# Altium footprint library general__electr.PcbLib: 12 footprints
Each footprint in its own frame and in the unit in brackets; x right, y up, seen from the top. Pads: shape width x height; smd on the part's side, far side on the other; paste and mask are expansions set on the pad; w line width, h text height; cw(c..) or ccw(c..) is an arc to the next point about the centre after c.
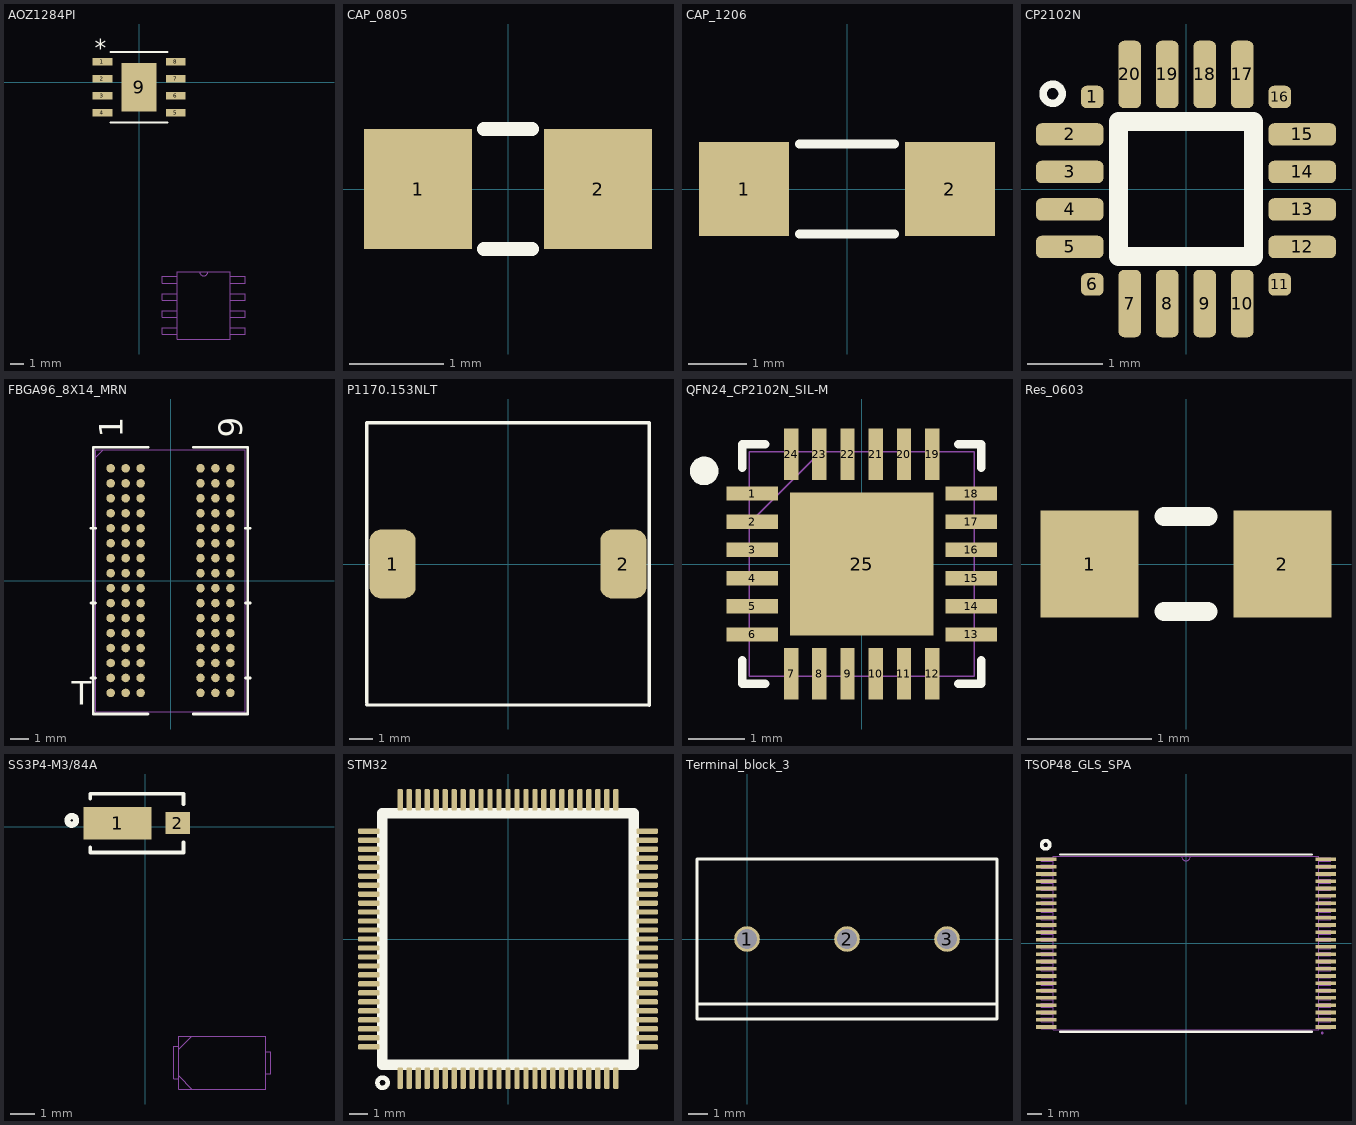
[diagram p0: the footprints below, top view; thin cyan lines are the x and y axes]

## AOZ1284PI [mil] "IC REG BUCK ADJ 4A 8SO"
pads (9):
  rect 57.5x22 smd: 1(-107.25,60) 2(-107.25,10) 3(-107.25,-40) 4(-107.25,-90) 5(107.25,-90) 6(107.25,-40) 7(107.25,10) 8(107.25,60)
  rect 102x142 smd: 9(0,-15)
Top Overlay:
  lines w6: -83.5,-118.5 83.5,-118.5 ; -83.5,88.5 83.5,88.5
  text "*" at -129.75,77 h50
Top Paste:
  region: 47.06,-18.94 3.94,-18.94 3.94,-82.06 47.06,-82.06
  region: 47.06,52.06 3.94,52.06 3.94,-11.06 47.06,-11.06
  region: -3.94,-18.94 -47.06,-18.94 -47.06,-82.06 -3.94,-82.06
  region: -3.94,52.06 -47.06,52.06 -47.06,-11.06 -3.94,-11.06
Mechanical 13:
  lines w0: 178,-556.5 ccw(c190,-556.5) 202,-556.5
  lines w1: 68,-740 111.5,-740 111.5,-720 68,-720 68,-740 ; 68,-690 111.5,-690 111.5,-670 68,-670 68,-690 ; 68,-640 111.5,-640 111.5,-620 68,-620 68,-640 ; 68,-590 111.5,-590 111.5,-570 68,-570 68,-590 ; 111.5,-753.5 111.5,-556.5 268.5,-556.5 268.5,-753.5 111.5,-753.5 ; 268.5,-740 312,-740 312,-720 268.5,-720 268.5,-740 ; 268.5,-690 312,-690 312,-670 268.5,-670 268.5,-690 ; 268.5,-640 312,-640 312,-620 268.5,-620 268.5,-640 ; 268.5,-590 312,-590 312,-570 268.5,-570 268.5,-590

## CAP_0805 [mil]
pads (2):
  rect 45x50 smd: 1(-37.5,0) 2(37.5,0)
Top Overlay:
  lines w6: -10,-25 10,-25 ; -10,25 10,25
3D body "User Library-SMD Ceramic Capacitors_0805 (2012)_DP.STEP": height 35.43, standoff 0, extent -39.37,-24.61 39.37,24.61

## CAP_1206 [mil]
pads (2):
  rect 60x63 smd: 1(-69,0) 2(69,0)
Top Overlay:
  lines w6: -32,-30 32,-30 ; -32,30 32,30
3D body "1206.STEP": height 62.99, standoff 0, extent -64.57,-31.5 64.57,31.5

## CP2102N [mm] "CP2102N-A02-GQFN20R"
pads (20):
  rrect50% 0.3x0.3 smd: 1(-1.25,1.227) 6(-1.25,-1.273) 11(1.25,-1.273) 16(1.25,1.227)
  rrect50% 0.9x0.3 smd: 2(-1.55,0.727) 3(-1.55,0.227) 4(-1.55,-0.273) 5(-1.55,-0.773) 12(1.55,-0.773) 13(1.55,-0.273) 14(1.55,0.227) 15(1.55,0.727)
  rrect50% 0.3x0.9 smd: 7(-0.75,-1.527) 8(-0.25,-1.527) 9(0.25,-1.527) 10(0.75,-1.527) 17(0.75,1.527) 18(0.25,1.527) 19(-0.25,1.527) 20(-0.75,1.527)
Top Overlay:
  circle w0.1: c-1.778,1.27 r0.127
  lines w0.254: -0.9,-0.9 0.9,-0.9 0.9,0.9 -0.9,0.9 -0.9,-0.9
3D body "User Library-QFN20(3x3).STEP": height 0.8, standoff 0, extent -1.5,-1.5 1.5,1.5

## FBGA96_8X14_MRN [mm]
pads (96):
  round 0.457 smd: A1(-3.2,6) A2(-2.4,6) A3(-1.6,6) A7(1.6,6) A8(2.4,6) A9(3.2,6) B1(-3.2,5.2) B2(-2.4,5.2) B3(-1.6,5.2) B7(1.6,5.2) B8(2.4,5.2) B9(3.2,5.2) C1(-3.2,4.4) C2(-2.4,4.4) C3(-1.6,4.4) C7(1.6,4.4) C8(2.4,4.4) C9(3.2,4.4) D1(-3.2,3.6) D2(-2.4,3.6) D3(-1.6,3.6) D7(1.6,3.6) D8(2.4,3.6) D9(3.2,3.6) E1(-3.2,2.8) E2(-2.4,2.8) E3(-1.6,2.8) E7(1.6,2.8) E8(2.4,2.8) E9(3.2,2.8) F1(-3.2,2) F2(-2.4,2) F3(-1.6,2) F7(1.6,2) F8(2.4,2) F9(3.2,2) G1(-3.2,1.2) G2(-2.4,1.2) G3(-1.6,1.2) G7(1.6,1.2) G8(2.4,1.2) G9(3.2,1.2) H1(-3.2,0.4) H2(-2.4,0.4) H3(-1.6,0.4) H7(1.6,0.4) H8(2.4,0.4) H9(3.2,0.4) J1(-3.2,-0.4) J2(-2.4,-0.4) J3(-1.6,-0.4) J7(1.6,-0.4) J8(2.4,-0.4) J9(3.2,-0.4) K1(-3.2,-1.2) K2(-2.4,-1.2) K3(-1.6,-1.2) K7(1.6,-1.2) K8(2.4,-1.2) K9(3.2,-1.2) L1(-3.2,-2) L2(-2.4,-2) L3(-1.6,-2) L7(1.6,-2) L8(2.4,-2) L9(3.2,-2) M1(-3.2,-2.8) M2(-2.4,-2.8) M3(-1.6,-2.8) M7(1.6,-2.8) M8(2.4,-2.8) M9(3.2,-2.8) N1(-3.2,-3.6) N2(-2.4,-3.6) N3(-1.6,-3.6) N7(1.6,-3.6) N8(2.4,-3.6) N9(3.2,-3.6) P1(-3.2,-4.4) P2(-2.4,-4.4) P3(-1.6,-4.4) P7(1.6,-4.4) P8(2.4,-4.4) P9(3.2,-4.4) R1(-3.2,-5.2) R2(-2.4,-5.2) R3(-1.6,-5.2) R7(1.6,-5.2) R8(2.4,-5.2) R9(3.2,-5.2) T1(-3.2,-6) T2(-2.4,-6) T3(-1.6,-6) T7(1.6,-6) T8(2.4,-6) T9(3.2,-6)
Top Overlay:
  lines w0.152: -4.255,-5.2 -4,-5.2 ; -4.255,-1.2 -4,-1.2 ; -4.255,2.8 -4,2.8 ; -1.209,-7.125 -4.127,-7.125 -4.127,7.125 -1.209,7.125 ; 1.209,-7.125 4.127,-7.125 4.127,7.125 1.209,7.125 ; 4,-5.2 4.255,-5.2 ; 4,-1.2 4.255,-1.2 ; 4,2.8 4.255,2.8
  text "1" at -2.565,7.633 h1.27
  text "9" at 3.835,7.633 h1.27
  text "T" at -5.271,-6.635 h1.27
Bottom Overlay:
  text "1" at -3.835,7.633 h1.27
  text "9" at 2.565,7.633 h1.27
Top Paste:
  region: 0.802,6.898 -0.802,6.898 -0.802,5.825 0.802,5.825
  region: 0.802,5.625 -0.802,5.625 -0.802,4.553 0.802,4.553
  region: 0.802,4.353 -0.802,4.353 -0.802,3.281 0.802,3.281
  region: 0.802,3.081 -0.802,3.081 -0.802,2.008 0.802,2.008
  region: 0.802,1.808 -0.802,1.808 -0.802,0.736 0.802,0.736
  region: 0.802,0.536 -0.802,0.536 -0.802,-0.536 0.802,-0.536
  region: 0.802,-0.736 -0.802,-0.736 -0.802,-1.808 0.802,-1.808
  region: 0.802,-2.008 -0.802,-2.008 -0.802,-3.081 0.802,-3.081
  region: 0.802,-3.281 -0.802,-3.281 -0.802,-4.353 0.802,-4.353
  region: 0.802,-4.553 -0.802,-4.553 -0.802,-5.625 0.802,-5.625
  region: 0.802,-5.825 -0.802,-5.825 -0.802,-6.898 0.802,-6.898
Mechanical 13:
  lines w0.025: -4,6.598 -3.601,6.998 ; -4,-6.998 4,-6.998 4,6.998 -4,6.998 -4,-6.998
  text "1" at -2.565,7.633 h1.27
  text "9" at 3.835,7.633 h1.27
3D body "FBGA96_8X14_MRN.step": height 1.2, standoff 0, extent -4,-6.998 4,6.998

## P1170.153NLT [mil] "FIXED IND 15UH 4A 30 MOHM SMD"
pads (2):
  rrect50% 79x118 smd: 1(-197,0) 2(197,0)
Top Overlay:
  lines w6: -241,-240 241,-241 241,241 -241,241 ; -241,-237 -241,240
3D body "IND_70153NLT_PUL.step": height 237.99, standoff 0, extent -240.98,-240.98 240.98,240.98

## QFN24_CP2102N_SIL-M [mil]
pads (25):
  rect 36x10 smd paste+0: 1(-76.5,49.23) 2(-76.5,29.54) 3(-76.5,9.85) 4(-76.5,-9.85) 5(-76.5,-29.54) 6(-76.5,-49.23) 13(76.5,-49.23) 14(76.5,-29.54) 15(76.5,-9.85) 16(76.5,9.85) 17(76.5,29.54) 18(76.5,49.23)
  rect 10x36 smd paste+0: 7(-49.23,-76.5) 8(-29.54,-76.5) 9(-9.85,-76.5) 10(9.85,-76.5) 11(29.54,-76.5) 12(49.23,-76.5) 19(49.23,76.5) 20(29.54,76.5) 21(9.85,76.5) 22(-9.85,76.5) 23(-29.54,76.5) 24(-49.23,76.5)
  rect 100x100 smd paste-50: 25(0,0)
Top Overlay:
  circle w10: c-110,65 r5
  lines w6: -83.5,-67.33 -83.5,-83.5 -67.33,-83.5 ; -83.5,67.33 -83.5,83.5 -67.33,83.5 ; 67.33,-83.5 83.5,-83.5 83.5,-67.33 ; 67.33,83.5 83.5,83.5 83.5,67.33
Top Paste:
  region: -3.94,46.06 -46.06,46.06 -46.06,3.94 -3.94,3.94
  region: -3.94,-3.94 -46.06,-3.94 -46.06,-46.06 -3.94,-46.06
  region: 46.06,46.06 3.94,46.06 3.94,3.94 46.06,3.94
  region: 46.06,-3.94 3.94,-3.94 3.94,-46.06 46.06,-46.06
Mechanical 13:
  lines w1: -78.5,28.5 -28.5,78.5 ; -78.5,-78.5 78.5,-78.5 78.5,78.5 -78.5,78.5 -78.5,-78.5 ; -78.5,-55.23 -78.5,-43.23 -78.5,-55.23 ; -78.5,-35.53 -78.5,-23.54 -78.5,-35.53 ; -78.5,-15.85 -78.5,-3.85 -78.5,-15.85 ; -78.5,3.85 -78.5,15.85 -78.5,3.85 ; -78.5,23.54 -78.5,35.53 -78.5,23.54 ; -78.5,43.23 -78.5,55.23 -78.5,43.23 ; -55.23,-78.5 -43.23,-78.5 -55.23,-78.5 ; -55.23,78.5 -43.23,78.5 -55.23,78.5 ; -35.53,-78.5 -23.54,-78.5 -35.53,-78.5 ; -35.53,78.5 -23.54,78.5 -35.53,78.5 ; -15.85,-78.5 -3.85,-78.5 -15.85,-78.5 ; -15.85,78.5 -3.85,78.5 -15.85,78.5 ; 3.85,-78.5 15.85,-78.5 3.85,-78.5 ; 3.85,78.5 15.85,78.5 3.85,78.5 ; 23.54,-78.5 35.53,-78.5 23.54,-78.5 ; 23.54,78.5 35.53,78.5 23.54,78.5 ; 43.23,-78.5 55.23,-78.5 43.23,-78.5 ; 43.23,78.5 55.23,78.5 43.23,78.5 ; 78.5,-55.23 78.5,-43.23 78.5,-55.23 ; 78.5,-35.53 78.5,-23.54 78.5,-35.53 ; 78.5,-15.85 78.5,-3.85 78.5,-15.85 ; 78.5,3.85 78.5,15.85 78.5,3.85 ; 78.5,23.54 78.5,35.53 78.5,23.54 ; 78.5,43.23 78.5,55.23 78.5,43.23
3D body "QFN24_CP2102N_SIL.step": height 32.09, standoff 0, extent -78.5,-78.5 78.5,78.5

## Res_0603 [mil]
pads (2):
  rect 31x34 smd: 1(-30.5,0) 2(30.5,0)
Top Overlay:
  lines w6: -7,-15 7,-15 ; -7,15 7,15
3D body "CircuitWorks-RESISTOR 0603.STEP": height 20.58, standoff 0.5, extent -31.5,-16.93 31.5,16.93

## SS3P4-M3/84A [mil] "DIODE SCHOTTKY 40V 3A DO220AA"
pads (2):
  rect 111x53 smd: 1(-45.5,5.69)
  rect 40x36 smd: 2(53,5.69)
Top Overlay:
  circle w10: c-120,10 r7.07
  lines w6: -90,-33.91 -90,-42.31 62,-42.31 62,-25.41 ; -90,45.29 -90,53.69 62,53.69 62,36.79
Mechanical 13:
  lines w1: 54,-406.5 75.5,-428 ; 54,-363.5 75.5,-342 ; 46,-411.5 46,-358.5 54,-358.5 54,-411.5 46,-411.5 ; 54,-428 196,-428 196,-342 54,-342 54,-428 ; 196,-403 196,-367 204,-367 204,-403 196,-403
3D body "CR_4-M384A_VIS.step": height 32.09, standoff 0, extent -93.02,-37.3 65.02,48.68

## STM32 [mm]
pads (100):
  rrect50% 0.3x1.2 smd: 1(-6,-7.75) 2(-5.5,-7.75) 3(-5,-7.75) 4(-4.5,-7.75) 5(-4,-7.75) 6(-3.5,-7.75) 7(-3,-7.75) 8(-2.5,-7.75) 9(-2,-7.75) 10(-1.5,-7.75) 11(-1,-7.75) 12(-0.5,-7.75) 13(0,-7.75) 14(0.5,-7.75) 15(1,-7.75) 16(1.5,-7.75) 17(2,-7.75) 18(2.5,-7.75) 19(3,-7.75) 20(3.5,-7.75) 21(4,-7.75) 22(4.5,-7.75) 23(5,-7.75) 24(5.5,-7.75) 25(6,-7.75) 51(6,7.75) 52(5.5,7.75) 53(5,7.75) 54(4.5,7.75) 55(4,7.75) 56(3.5,7.75) 57(3,7.75) 58(2.5,7.75) 59(2,7.75) 60(1.5,7.75) 61(1,7.75) 62(0.5,7.75) 63(0,7.75) 64(-0.5,7.75) 65(-1,7.75) 66(-1.5,7.75) 67(-2,7.75) 68(-2.5,7.75) 69(-3,7.75) 70(-3.5,7.75) 71(-4,7.75) 72(-4.5,7.75) 73(-5,7.75) 74(-5.5,7.75) 75(-6,7.75)
  rrect50% 1.2x0.3 smd: 26(7.75,-6) 27(7.75,-5.5) 28(7.75,-5) 29(7.75,-4.5) 30(7.75,-4) 31(7.75,-3.5) 32(7.75,-3) 33(7.75,-2.5) 34(7.75,-2) 35(7.75,-1.5) 36(7.75,-1) 37(7.75,-0.5) 38(7.75,0) 39(7.75,0.5) 40(7.75,1) 41(7.75,1.5) 42(7.75,2) 43(7.75,2.5) 44(7.75,3) 45(7.75,3.5) 46(7.75,4) 47(7.75,4.5) 48(7.75,5) 49(7.75,5.5) 50(7.75,6) 76(-7.75,6) 77(-7.75,5.5) 78(-7.75,5) 79(-7.75,4.5) 80(-7.75,4) 81(-7.75,3.5) 82(-7.75,3) 83(-7.75,2.5) 84(-7.75,2) 85(-7.75,1.5) 86(-7.75,1) 87(-7.75,0.5) 88(-7.75,0) 89(-7.75,-0.5) 90(-7.75,-1) 91(-7.75,-1.5) 92(-7.75,-2) 93(-7.75,-2.5) 94(-7.75,-3) 95(-7.75,-3.5) 96(-7.75,-4) 97(-7.75,-4.5) 98(-7.75,-5) 99(-7.75,-5.5) 100(-7.75,-6)
Top Overlay:
  circle w0.254: c-6.985,-8.001 r0.284
  lines w0.6: -7,-7 7,-7 7,7 -7,7 -7,-7
3D body "User Library-STM32F103VET6.STEP": height 1.45, standoff -0.08, extent -7.999,-8.001 8.001,7.999

## Terminal_block_3 [mm] "CONN HEADER VERT 3POS 5.08MM"
pads (3):
  round 1.3 hole 1.03: 1(0,0) 2(5.08,0) 3(10.16,0)
Top Overlay:
  lines w0.152: -2.54,-4.064 12.7,-4.064 ; -2.54,-4.05 -2.54,4.05 ; -2.54,-3.302 12.7,-3.302 ; -2.54,4.064 12.7,4.064 ; 12.7,-4.05 12.7,4.05
3D body "1729131.step": height 9.88, standoff -3.59, extent -3.11,-4.064 12.695,4.086

## TSOP48_GLS_SPA [mil]
pads (48):
  rect 56x10 smd: 1(-383.5,230) 2(-383.5,210) 3(-383.5,190) 4(-383.5,170) 5(-383.5,150) 6(-383.5,130) 7(-383.5,110) 8(-383.5,90) 9(-383.5,70) 10(-383.5,50) 11(-383.5,30) 12(-383.5,10) 13(-383.5,-10) 14(-383.5,-30) 15(-383.5,-50) 16(-383.5,-70) 17(-383.5,-90) 18(-383.5,-110) 19(-383.5,-130) 20(-383.5,-150) 21(-383.5,-170) 22(-383.5,-190) 23(-383.5,-210) 24(-383.5,-230) 25(383.5,-230) 26(383.5,-210) 27(383.5,-190) 28(383.5,-170) 29(383.5,-150) 30(383.5,-130) 31(383.5,-110) 32(383.5,-90) 33(383.5,-70) 34(383.5,-50) 35(383.5,-30) 36(383.5,-10) 37(383.5,10) 38(383.5,30) 39(383.5,50) 40(383.5,70) 41(383.5,90) 42(383.5,110) 43(383.5,130) 44(383.5,150) 45(383.5,170) 46(383.5,190) 47(383.5,210) 48(383.5,230)
Top Overlay:
  circle w10: c-385,270 r11.18
  lines w6: -345.13,-243 345.13,-243 ; -345.13,243 345.13,243
Mechanical 13:
  drawing of 197 lines, arcs and shapes, not listed
Mechanical 15:
  lines w6: 374,-248 374,-245
3D body "TSOP48_GLS_SPA.step": height 47.09, standoff 0, extent -397.52,-237.99 397.52,237.99